# EAGLE library part M74HC51B1R (library ST Microelctronics_By_element14_Batch_1)
DUAL 2 WIDE 2 INPUT AND/OR INVERT GATE
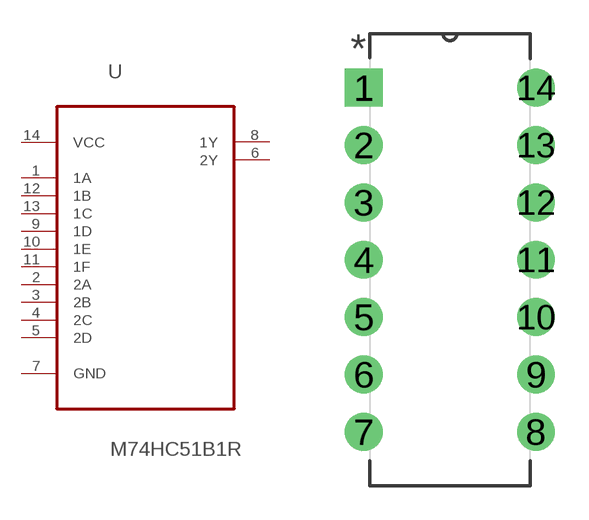
[diagram p244: symbol with the pads of DIP254P762X510-14; footprint DIP254P762X510-14]

Designator prefix U

## M74HC51B1R (MPN: M74HC51B1R; OC_FARNELL: 1278625; OC_NEWARK: 89K0922; PACKAGE: PDIP-14; SUPPLIER: STMICROELECTRONICS)  [DIP254P762X510-14]
1  1A  in
2  2A  in
3  2B  in
4  2C  in
5  2D  in
6  2Y  out
7  GND  pas
8  1Y  out
9  1D  in
10  1E  in
11  1F  in
12  1B  in
13  1C  in
14  VCC  pwr

## Footprint DIP254P762X510-14 (pad centres in mm)
drill 1.118 square: 1 -7.62,15.24
drill 1.118: 2 -7.62,12.7; 3 -7.62,10.16; 4 -7.62,7.62; 5 -7.62,5.08; 6 -7.62,2.54; 7 -7.62,0; 8 0,0; 9 0,2.54; 10 0,5.08; 11 0,7.62; 12 0,10.16; 13 0,12.7; 14 0,15.24